# EAGLE library part FT201X (library ftdi)
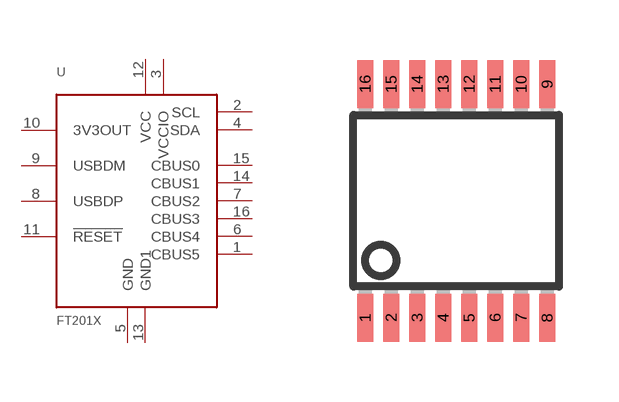
[diagram p0: symbol with the pads of SSOP16; footprint SSOP16]

Designator prefix -

## FT201X  [SSOP16]
1  CBUS5
2  SCL
3  VCCIO
4  SDA
5  GND
6  CBUS4
7  CBUS2
8  USBDP
9  USBDM
10  3V3OUT
11  !RESET!
12  VCC
13  GND1
14  CBUS1
15  CBUS0
16  CBUS3

## Footprint SSOP16 (pad centres in mm)
Small Shrink Outline Package
smd 0.4 x 1.2: 1 -2.275,-2.925; 2 -1.625,-2.925; 3 -0.975,-2.925; 4 -0.325,-2.925; 5 0.325,-2.925; 6 0.975,-2.925; 7 1.625,-2.925; 8 2.275,-2.925; 9 2.275,2.925; 10 1.625,2.925; 11 0.975,2.925; 12 0.325,2.925; 13 -0.325,2.925; 14 -0.975,2.925; 15 -1.625,2.925; 16 -2.275,2.925